# Altium integrated library LPS3314-222MRB.IntLib: 1 symbol
Pins are listed as number, name and electrical type; pins without a type are passive.

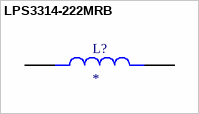
[diagram p0: symbol LPS3314-222MRB]

## LPS3314-222MRB
designator L?
Inductor, Shld, 2.2uh, 20%, 1.2a, Smd; MF: Coilcraft; MP: LPS3314-222MRB; SnapEDA_Link: https://www.snapeda.com/parts/LPS3314-222MRB/Coilcraft/view-part/?ref=snap; Package: None; Value: *; Check_prices: https://www.snapeda.com/parts/LPS3314-222MRB/Coilcraft/view-part/?ref=eda
footprint IND_LPS3314-222MRB
pins: 1, 2